# Altium integrated library LSF0108PWR.IntLib: 1 symbol
Pins are listed as number, name and electrical type; pins without a type are passive.

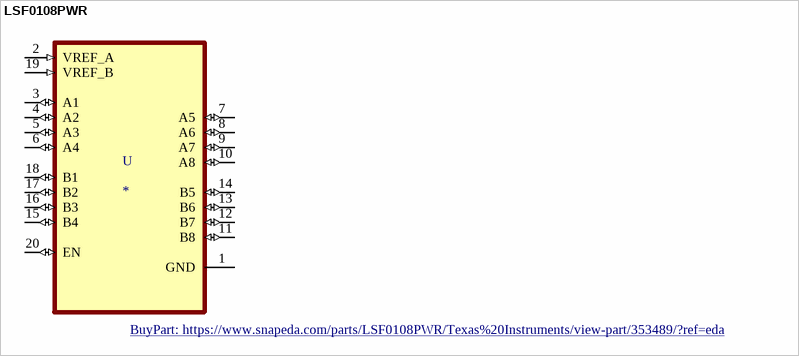
[diagram p0: symbol LSF0108PWR]

## LSF0108PWR
designator U
Octal Bidirectional Multi-Voltage-Level Translator 20-TSSOP -40 to 125; MF: Texas Instruments; MP: LSF0108PWR; Texas_Instruments-Purchase-URL: https://snapeda.com/shop?store=Texas+Instruments&id=353489; SnapEDA_Link: https://www.snapeda.com/parts/LSF0108PWR/Texas%20Instruments/view-part/353489/?ref=snap; Value: *; Package: TSSOP-20 Texas Instruments; BuyPart: https://www.snapeda.com/parts/LSF0108PWR/Texas%20Instruments/view-part/353489/?ref=eda
footprint SOP65P640X120-20N
pins: 1 GND (power), 2 VREF_A (in), 3 A1 (io), 4 A2 (io), 5 A3 (io), 6 A4 (io), 7 A5 (io), 8 A6 (io), 9 A7 (io), 10 A8 (io), 11 B8 (io), 12 B7 (io), 13 B6 (io), 14 B5 (io), 15 B4 (io), 16 B3 (io), 17 B2 (io), 18 B1 (io), 19 VREF_B (in), 20 EN (io)